# EAGLE library part ATTINY85 (library attiny85)
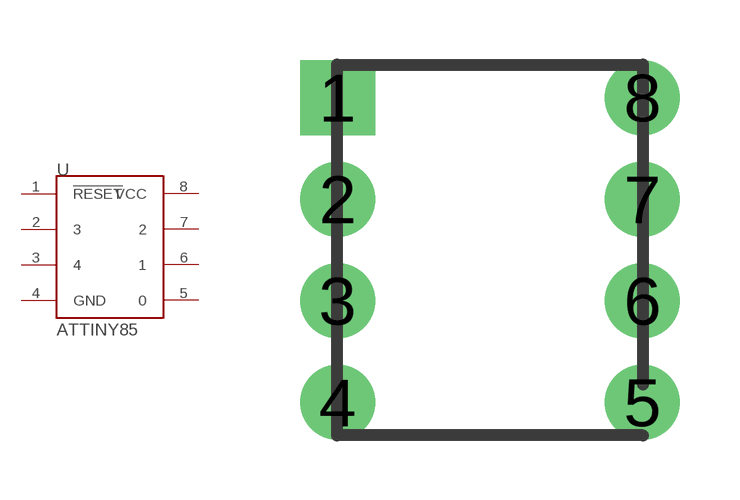
[diagram p0: symbol with the pads of 8P3; footprint 8P3]

Designator prefix -

## ATTINY85  [8P3]
1  !RESET
2  3
3  4
4  GND  pwr
5  0
6  1
7  2
8  VCC  pwr

## Footprint 8P3 (pad centres in mm)
drill 1.016 pad 1.88 square: 1 -3.81,3.81
drill 1.016 pad 1.88: 2 -3.81,1.27; 3 -3.81,-1.27; 4 -3.81,-3.81; 5 3.81,-3.81; 6 3.81,-1.27; 7 3.81,1.27; 8 3.81,3.81